# EAGLE library part MICROSD-SOCKET-RISTRETTO (library Ristretto)
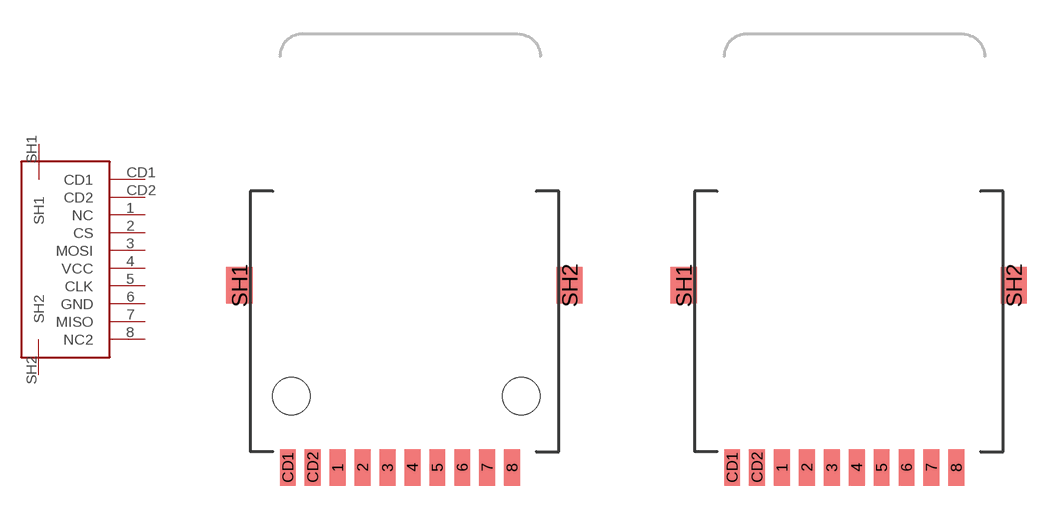
[diagram p3: symbol with the pads of MICROSD-SOCKET-RISTRETTO; footprints MICROSD-SOCKET-RISTRETTO, MICROSD-SOCKET-WRIGLEY]

Designator prefix -

## MICROSD-SOCKET-RISTRETTO  [MICROSD-SOCKET-RISTRETTO]
1  NC
2  CS
3  MOSI
4  VCC
5  CLK
6  GND
7  MISO
8  NC2
CD1  CD1
CD2  CD2
SH1  SH1
SH2  SH2

## MICROSD-SOCKET-RISTRETTONO-HOLES  [MICROSD-SOCKET-WRIGLEY]
Pads as for MICROSD-SOCKET-RISTRETTO

## Footprint MICROSD-SOCKET-RISTRETTO (pad centres in mm)
smd 0.7 x 1.6: 1 -2.95,-3.15; 2 -1.85,-3.15; 3 -0.75,-3.15; 4 0.35,-3.15; 5 1.45,-3.15; 6 2.55,-3.15; 7 3.65,-3.15; 8 4.75,-3.15; CD1 -5.15,-3.15; CD2 -4.05,-3.15
smd 1.15 x 1.6: SH1 -7.29,4.9; SH2 7.29,4.9
hole 1.65 at -5,0
hole 1.65 at 5.15,0

## Footprint MICROSD-SOCKET-WRIGLEY (pad centres in mm)
smd 0.7 x 1.6: 1 -2.95,-3.15; 2 -1.85,-3.15; 3 -0.75,-3.15; 4 0.35,-3.15; 5 1.45,-3.15; 6 2.55,-3.15; 7 3.65,-3.15; 8 4.75,-3.15; CD1 -5.15,-3.15; CD2 -4.05,-3.15
smd 1.15 x 1.6: SH1 -7.29,4.9; SH2 7.29,4.9